# EAGLE library part INA181 (library misc)
Current Sense Amplifier 1 Circuit Rail-to-Rail SOT-23-6
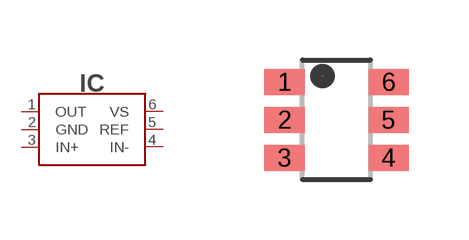
[diagram p50: symbol with the pads of SOT23-6; footprint SOT23-6]

Designator prefix IC

## INA181A1 (DIGIKEY#: 296-47656-2-ND; DIGIREEL#: 296-47656-6-ND; GAIN: 20V/V; MANF: Texas Instruments; MANF#: INA181A1IDBVR), INA181A2 (DIGIKEY#: 296-47657-1-ND; DIGIREEL#: 296-46635-6-ND; GAIN: 50V/V; MANF: Texas Instruments; MANF#: INA181A2IDBVT)  [SOT23-6]
1  OUT
2  GND
3  IN+
4  IN-
5  REF
6  VS

## Footprint SOT23-6 (pad centres in mm)
smd 1 x 0.65: 1 -1.3,0.95; 2 -1.3,0; 3 -1.3,-0.95; 4 1.3,-0.95; 5 1.3,0; 6 1.3,0.95